# EAGLE library part ACS711-QFN (library ACS711)
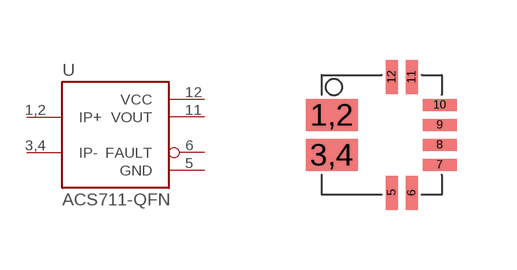
[diagram p1: symbol with the pads of QFN12; footprint QFN12]

Designator prefix -

## ACS711-QFN  [QFN12]
1,2  IP+
3,4  IP-
5  GND
6  FAULT
11  VOUT
12  VCC

## Footprint QFN12 (pad centres in mm)
smd 1.3 x 0.8: 1,2 -1.25,0.5; 3,4 -1.25,-0.5
smd 0.3 x 0.85: 5 0.25,-1.45; 6 0.75,-1.45; 11 0.75,1.45; 12 0.25,1.45
smd 0.85 x 0.3: 7 1.45,-0.75; 8 1.45,-0.25; 9 1.45,0.25; 10 1.45,0.75